# Altium footprint library WS-TASV.PcbLib: 101 footprints (part 1 of 7)
Each footprint in its own frame and in the unit in brackets; x right, y up, seen from the top. Pads: shape width x height; smd on the part's side, far side on the other; paste and mask are expansions set on the pad; w line width, h text height; cw(c..) or ccw(c..) is an arc to the next point about the centre after c.
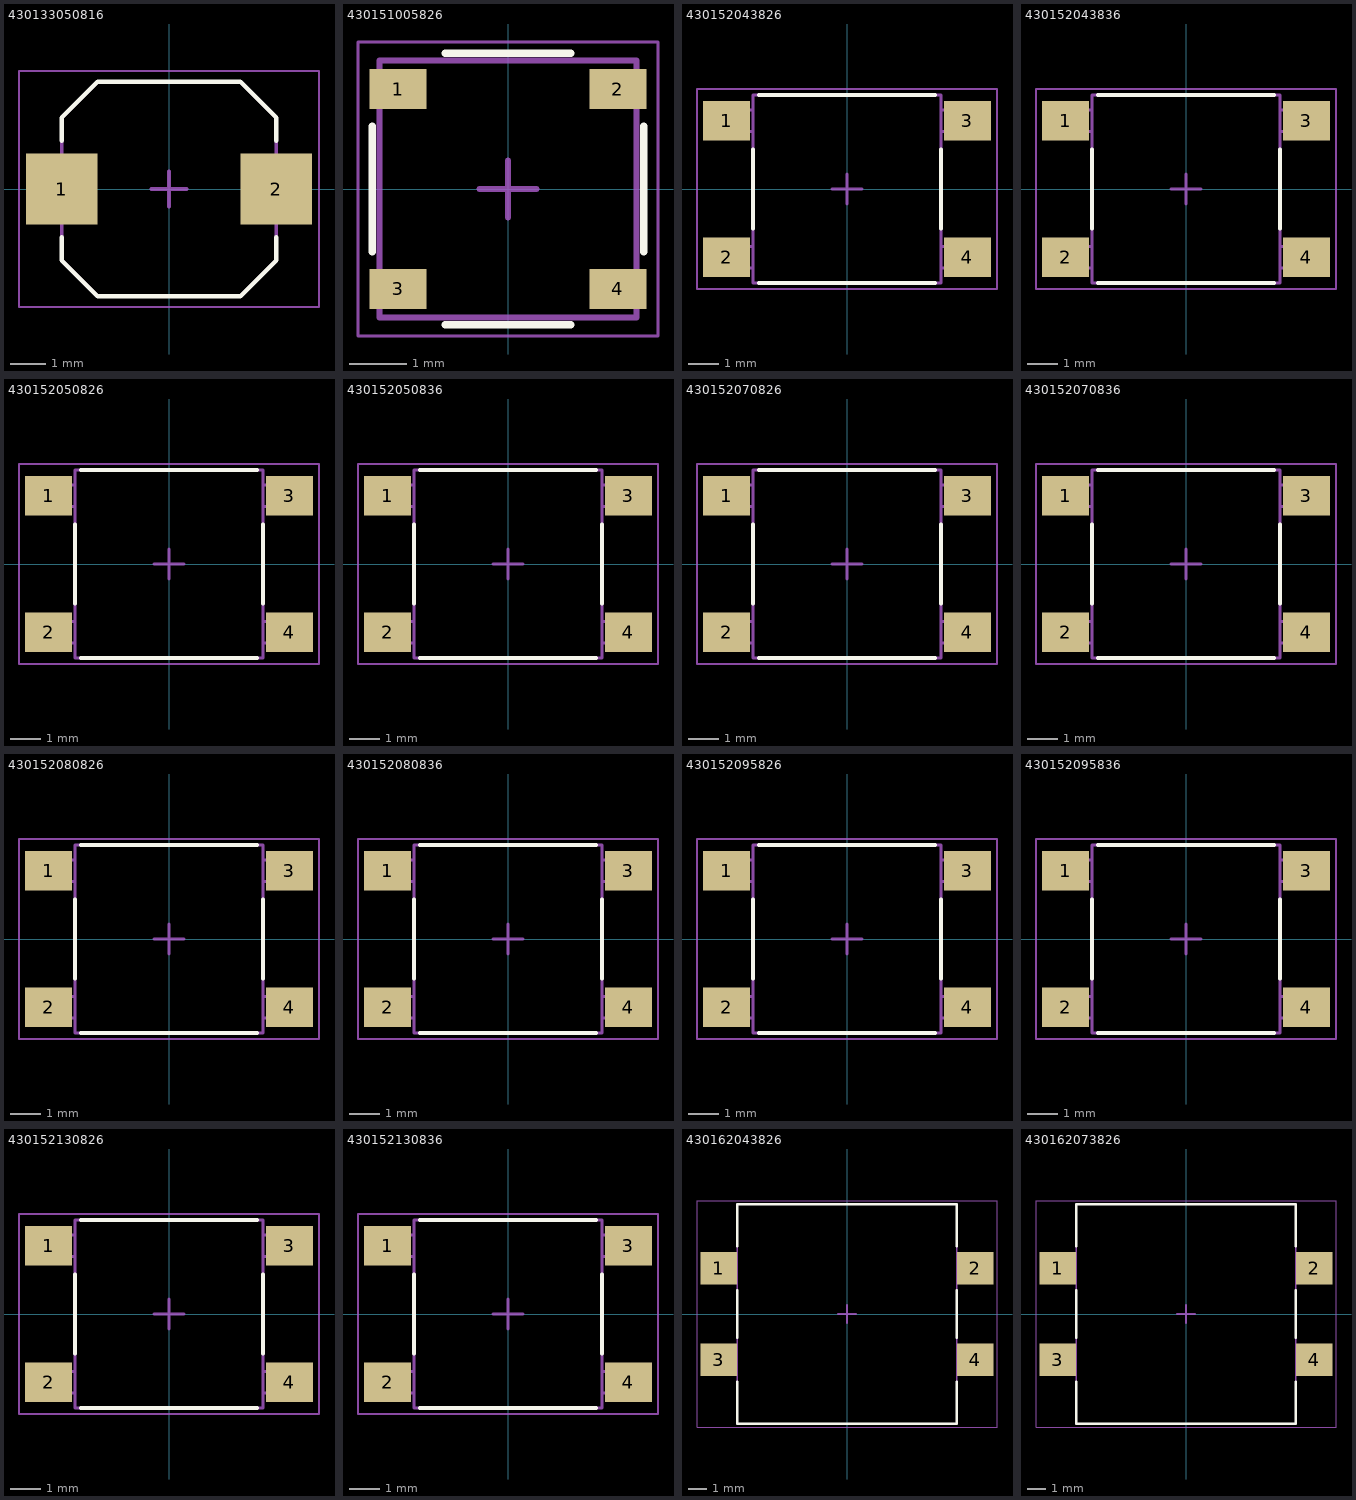
[diagram p0: the footprints below, top view; thin cyan lines are the x and y axes]

## 430133050816 [mm] "Tact Switch, SMT, body 6x6mm"
height 5
pads (2):
  rect 2x2 smd: 1(-3,0) 2(3,0)
Top Overlay:
  lines w0.127: -3,-1.35 -3,-2 -2,-3 2,-3 3,-2 3,-1.35 ; -3,1.35 -3,2 -2,3 2,3 3,2 3,1.35
Top Assembly:
  lines w0.1: -3,-2 -3,2 -2,3 2,3 3,2 3,-2 2,-3 -2,-3 -3,-2
Top Designator:
  text ".Designator" at -3.647,-0.357 h1
Top Courtyard:
  lines w0.05: -4.2,-3.3 4.2,-3.3 4.2,3.3 -4.2,3.3 -4.2,-3.3
Top Component Center:
  lines w0.1: -0.5,0 0.5,0 ; 0,-0.5 0,0.5
3D body "4301330508x6.stp": height 5, standoff 0, extent -3.35,-3 3.35,3

## 430151005826 [mm] "Tact Switch, SMD, body 4.5x4.5mm"
height 0.55
pads (4):
  rect 1x0.7 smd: 1(-1.925,1.75) 2(1.925,1.75) 3(-1.925,-1.75) 4(1.925,-1.75)
Top Overlay:
  lines w0.127: -2.375,-1.1 -2.375,1.1 ; -1.1,-2.375 1.1,-2.375 ; -1.1,2.375 1.1,2.375 ; 2.375,-1.1 2.375,1.1
Top Assembly:
  lines w0.1: -2.25,-2.25 2.25,-2.25 2.25,2.25 -2.25,2.25 -2.25,-2.25
Top Designator:
  text ".Designator" at -3.647,-0.357 h1
Top 3D Body:
  lines w0.1: -2.25,-2.25 -2.25,2.25 2.25,2.25 2.25,-2.25 -2.25,-2.25
Top Courtyard:
  lines w0.05: -2.625,-2.575 2.625,-2.575 2.625,2.575 -2.625,2.575 -2.625,-2.575
Top Component Center:
  lines w0.1: -0.5,0 0.5,0 ; 0,-0.5 0,0.5
3D body "4301x10058x6.stp": height 0.55, standoff -0.01, extent -2.375,-2.25 2.375,2.25

## 430152043826 [mm] "SMD Tact Switch, body 6x6mm"
height 4.3
pads (4):
  rect 1.55x1.3 smd: 1(-3.975,2.25) 2(-3.975,-2.25) 3(3.975,2.25) 4(3.975,-2.25)
Top Overlay:
  lines w0.127: -3.1,-1.3 -3.1,1.3 ; -2.9,-3.1 2.9,-3.1 ; -2.9,3.1 2.9,3.1 ; 3.1,-1.3 3.1,1.3
Top Assembly:
  lines w0.1: -3.1,-2.6 -4.5,-2.6 -4.5,-1.9 -3.1,-1.9 ; -3.1,1.9 -4.5,1.9 -4.5,2.6 -3.1,2.6 ; 3.1,-2.6 4.5,-2.6 4.5,-1.9 3.1,-1.9 ; 3.1,1.9 4.5,1.9 4.5,2.6 3.1,2.6 ; -3.1,-3.1 -3.1,3.1 3.1,3.1 3.1,-3.1 -3.1,-3.1
Top Designator:
  text ".Designator" at -3.647,-0.357 h1
Top 3D Body:
  lines w0.1: -3.1,-2.6 -4.5,-2.6 -4.5,-1.9 -3.1,-1.9 ; -3.1,1.9 -4.5,1.9 -4.5,2.6 -3.1,2.6 ; 3.1,-2.6 4.5,-2.6 4.5,-1.9 3.1,-1.9 ; 3.1,1.9 4.5,1.9 4.5,2.6 3.1,2.6 ; -3.1,-3.1 -3.1,3.1 3.1,3.1 3.1,-3.1 -3.1,-3.1
Top Courtyard:
  lines w0.05: -4.95,-3.3 4.95,-3.3 4.95,3.3 -4.95,3.3 -4.95,-3.3
Top Component Center:
  lines w0.1: -0.5,0 0.5,0 ; 0,-0.5 0,0.5
3D body "4301x20438x6.stp": height 4.3, standoff 0, extent -4.5,-3.1 4.5,3.1

## 430152043836 [mm] "SMD Tact Switch, body 6x6mm"
height 4.3
pads (4):
  rect 1.55x1.3 smd: 1(-3.975,2.25) 2(-3.975,-2.25) 3(3.975,2.25) 4(3.975,-2.25)
Top Overlay:
  lines w0.127: -3.1,-1.3 -3.1,1.3 ; -2.9,-3.1 2.9,-3.1 ; -2.9,3.1 2.9,3.1 ; 3.1,-1.3 3.1,1.3
Top Assembly:
  lines w0.1: -3.1,-2.6 -4.5,-2.6 -4.5,-1.9 -3.1,-1.9 ; -3.1,1.9 -4.5,1.9 -4.5,2.6 -3.1,2.6 ; 3.1,-2.6 4.5,-2.6 4.5,-1.9 3.1,-1.9 ; 3.1,1.9 4.5,1.9 4.5,2.6 3.1,2.6 ; -3.1,-3.1 3.1,-3.1 3.1,3.1 -3.1,3.1 -3.1,-3.1
Top Designator:
  text ".Designator" at -3.647,-0.357 h1
Top 3D Body:
  lines w0.1: -3.1,-2.6 -4.5,-2.6 -4.5,-1.9 -3.1,-1.9 ; -3.1,1.9 -4.5,1.9 -4.5,2.6 -3.1,2.6 ; 3.1,-2.6 4.5,-2.6 4.5,-1.9 3.1,-1.9 ; 3.1,1.9 4.5,1.9 4.5,2.6 3.1,2.6 ; -3.1,-3.1 3.1,-3.1 3.1,3.1 -3.1,3.1 -3.1,-3.1
Top Courtyard:
  lines w0.05: -4.95,-3.3 -4.95,3.3 4.95,3.3 4.95,-3.3 -4.95,-3.3
Top Component Center:
  lines w0.1: -0.5,0 0.5,0 ; 0,-0.5 0,0.5
3D body "4301x20438x6.stp": height 4.3, standoff 0, extent -4.5,-3.1 4.5,3.1

## 430152050826 [mm] "SMD Tact Switch, body 6x6mm"
height 5
pads (4):
  rect 1.55x1.3 smd: 1(-3.975,2.25) 2(-3.975,-2.25) 3(3.975,2.25) 4(3.975,-2.25)
Top Overlay:
  lines w0.127: -3.1,-1.3 -3.1,1.3 ; -2.9,-3.1 2.9,-3.1 ; -2.9,3.1 2.9,3.1 ; 3.1,-1.3 3.1,1.3
Top Assembly:
  lines w0.1: -3.1,-2.6 -4.5,-2.6 -4.5,-1.9 -3.1,-1.9 ; -3.1,1.9 -4.5,1.9 -4.5,2.6 -3.1,2.6 ; 3.1,-2.6 4.5,-2.6 4.5,-1.9 3.1,-1.9 ; 3.1,1.9 4.5,1.9 4.5,2.6 3.1,2.6 ; -3.1,-3.1 3.1,-3.1 3.1,3.1 -3.1,3.1 -3.1,-3.1
Top Designator:
  text ".Designator" at -3.647,-0.357 h1
Top 3D Body:
  lines w0.1: -3.1,-2.6 -4.5,-2.6 -4.5,-1.9 -3.1,-1.9 ; -3.1,1.9 -4.5,1.9 -4.5,2.6 -3.1,2.6 ; 3.1,-2.6 4.5,-2.6 4.5,-1.9 3.1,-1.9 ; 3.1,1.9 4.5,1.9 4.5,2.6 3.1,2.6 ; -3.1,-3.1 -3.1,3.1 3.1,3.1 3.1,-3.1 -3.1,-3.1
Top Courtyard:
  lines w0.05: -4.95,-3.3 -4.95,3.3 4.95,3.3 4.95,-3.3 -4.95,-3.3
Top Component Center:
  lines w0.1: -0.5,0 0.5,0 ; 0,-0.5 0,0.5
3D body "4301x20508x6.stp": height 5, standoff 0, extent -4.5,-3.1 4.5,3.1

## 430152050836 [mm] "SMD Tact Switch, body 6x6mm"
height 5
pads (4):
  rect 1.55x1.3 smd: 1(-3.975,2.25) 2(-3.975,-2.25) 3(3.975,2.25) 4(3.975,-2.25)
Top Overlay:
  lines w0.127: -3.1,-1.3 -3.1,1.3 ; -2.9,-3.1 2.9,-3.1 ; -2.9,3.1 2.9,3.1 ; 3.1,-1.3 3.1,1.3
Top Assembly:
  lines w0.1: -3.1,-2.6 -4.5,-2.6 -4.5,-1.9 -3.1,-1.9 ; -3.1,1.9 -4.5,1.9 -4.5,2.6 -3.1,2.6 ; 3.1,-2.6 4.5,-2.6 4.5,-1.9 3.1,-1.9 ; 3.1,1.9 4.5,1.9 4.5,2.6 3.1,2.6 ; -3.1,-3.1 3.1,-3.1 3.1,3.1 -3.1,3.1 -3.1,-3.1
Top Designator:
  text ".Designator" at -3.647,-0.357 h1
Top 3D Body:
  lines w0.1: -3.1,-2.6 -4.5,-2.6 -4.5,-1.9 -3.1,-1.9 ; -3.1,1.9 -4.5,1.9 -4.5,2.6 -3.1,2.6 ; 3.1,-2.6 4.5,-2.6 4.5,-1.9 3.1,-1.9 ; 3.1,1.9 4.5,1.9 4.5,2.6 3.1,2.6 ; -3.1,-3.1 -3.1,3.1 3.1,3.1 3.1,-3.1 -3.1,-3.1
Top Courtyard:
  lines w0.05: -4.95,-3.3 -4.95,3.3 4.95,3.3 4.95,-3.3 -4.95,-3.3
Top Component Center:
  lines w0.1: -0.5,0 0.5,0 ; 0,-0.5 0,0.5
3D body "4301x20508x6.stp": height 5, standoff 0, extent -4.5,-3.1 4.5,3.1

## 430152070826 [mm] "SMD Tact Switch, body 6x6mm"
height 7
pads (4):
  rect 1.55x1.3 smd: 1(-3.975,2.25) 2(-3.975,-2.25) 3(3.975,2.25) 4(3.975,-2.25)
Top Overlay:
  lines w0.127: -3.1,-1.3 -3.1,1.3 ; -2.9,-3.1 2.9,-3.1 ; -2.9,3.1 2.9,3.1 ; 3.1,-1.3 3.1,1.3
Top Assembly:
  lines w0.1: -3.1,-2.6 -4.5,-2.6 -4.5,-1.9 -3.1,-1.9 ; -3.1,1.9 -4.5,1.9 -4.5,2.6 -3.1,2.6 ; 3.1,-2.6 4.5,-2.6 4.5,-1.9 3.1,-1.9 ; 3.1,1.9 4.5,1.9 4.5,2.6 3.1,2.6 ; -3.1,-3.1 3.1,-3.1 3.1,3.1 -3.1,3.1 -3.1,-3.1
Top Designator:
  text ".Designator" at -3.647,-0.357 h1
Top 3D Body:
  lines w0.1: -3.1,-2.6 -4.5,-2.6 -4.5,-1.9 -3.1,-1.9 ; -3.1,1.9 -4.5,1.9 -4.5,2.6 -3.1,2.6 ; 3.1,-2.6 4.5,-2.6 4.5,-1.9 3.1,-1.9 ; 3.1,1.9 4.5,1.9 4.5,2.6 3.1,2.6 ; -3.1,-3.1 3.1,-3.1 3.1,3.1 -3.1,3.1 -3.1,-3.1
Top Courtyard:
  lines w0.05: -4.95,-3.3 -4.95,3.3 4.95,3.3 4.95,-3.3 -4.95,-3.3
Top Component Center:
  lines w0.1: -0.5,0 0.5,0 ; 0,-0.5 0,0.5
3D body "4301x20708x6.stp": height 7, standoff 0, extent -4.5,-3.1 4.5,3.1

## 430152070836 [mm] "SMD Tact Switch, body 6x6mm"
height 7
pads (4):
  rect 1.55x1.3 smd: 1(-3.975,2.25) 2(-3.975,-2.25) 3(3.975,2.25) 4(3.975,-2.25)
Top Overlay:
  lines w0.127: -3.1,-1.3 -3.1,1.3 ; -2.9,-3.1 2.9,-3.1 ; -2.9,3.1 2.9,3.1 ; 3.1,-1.3 3.1,1.3
Top Assembly:
  lines w0.1: -3.1,-2.6 -4.5,-2.6 -4.5,-1.9 -3.1,-1.9 ; -3.1,1.9 -4.5,1.9 -4.5,2.6 -3.1,2.6 ; 3.1,-2.6 4.5,-2.6 4.5,-1.9 3.1,-1.9 ; 3.1,1.9 4.5,1.9 4.5,2.6 3.1,2.6 ; -3.1,-3.1 -3.1,3.1 3.1,3.1 3.1,-3.1 -3.1,-3.1
Top Designator:
  text ".Designator" at -3.647,-0.357 h1
Top 3D Body:
  lines w0.1: -3.1,-2.6 -4.5,-2.6 -4.5,-1.9 -3.1,-1.9 ; -3.1,1.9 -4.5,1.9 -4.5,2.6 -3.1,2.6 ; 3.1,-2.6 4.5,-2.6 4.5,-1.9 3.1,-1.9 ; 3.1,1.9 4.5,1.9 4.5,2.6 3.1,2.6 ; -3.1,-3.1 3.1,-3.1 3.1,3.1 -3.1,3.1 -3.1,-3.1
Top Courtyard:
  lines w0.05: -4.95,-3.3 4.95,-3.3 4.95,3.3 -4.95,3.3 -4.95,-3.3
Top Component Center:
  lines w0.1: -0.5,0 0.5,0 ; 0,-0.5 0,0.5
3D body "4301x20708x6.stp": height 7, standoff 0, extent -4.5,-3.1 4.5,3.1

## 430152080826 [mm] "SMD Tact Switch, body 6x6mm"
height 8
pads (4):
  rect 1.55x1.3 smd: 1(-3.975,2.25) 2(-3.975,-2.25) 3(3.975,2.25) 4(3.975,-2.25)
Top Overlay:
  lines w0.127: -3.1,-1.3 -3.1,1.3 ; -2.9,-3.1 2.9,-3.1 ; -2.9,3.1 2.9,3.1 ; 3.1,-1.3 3.1,1.3
Top Assembly:
  lines w0.1: -3.1,-2.6 -4.5,-2.6 -4.5,-1.9 -3.1,-1.9 ; -3.1,1.9 -4.5,1.9 -4.5,2.6 -3.1,2.6 ; 3.1,-2.6 4.5,-2.6 4.5,-1.9 3.1,-1.9 ; 3.1,1.9 4.5,1.9 4.5,2.6 3.1,2.6 ; -3.1,-3.1 -3.1,3.1 3.1,3.1 3.1,-3.1 -3.1,-3.1
Top Designator:
  text ".Designator" at -3.647,-0.357 h1
Top 3D Body:
  lines w0.1: -3.1,-2.6 -4.5,-2.6 -4.5,-1.9 -3.1,-1.9 ; -3.1,1.9 -4.5,1.9 -4.5,2.6 -3.1,2.6 ; 3.1,-2.6 4.5,-2.6 4.5,-1.9 3.1,-1.9 ; 3.1,1.9 4.5,1.9 4.5,2.6 3.1,2.6 ; -3.1,-3.1 -3.1,3.1 3.1,3.1 3.1,-3.1 -3.1,-3.1
Top Courtyard:
  lines w0.05: -4.95,-3.3 -4.95,3.3 4.95,3.3 4.95,-3.3 -4.95,-3.3
Top Component Center:
  lines w0.1: -0.5,0 0.5,0 ; 0,-0.5 0,0.5
3D body "4301x20808x6.stp": height 8, standoff 0, extent -4.5,-3.1 4.5,3.1

## 430152080836 [mm] "SMD Tact Switch, body 6x6mm"
height 8
pads (4):
  rect 1.55x1.3 smd: 1(-3.975,2.25) 2(-3.975,-2.25) 3(3.975,2.25) 4(3.975,-2.25)
Top Overlay:
  lines w0.127: -3.1,-1.3 -3.1,1.3 ; -2.9,-3.1 2.9,-3.1 ; -2.9,3.1 2.9,3.1 ; 3.1,-1.3 3.1,1.3
Top Assembly:
  lines w0.1: -3.1,-2.6 -4.5,-2.6 -4.5,-1.9 -3.1,-1.9 ; -3.1,1.9 -4.5,1.9 -4.5,2.6 -3.1,2.6 ; 3.1,-2.6 4.5,-2.6 4.5,-1.9 3.1,-1.9 ; 3.1,1.9 4.5,1.9 4.5,2.6 3.1,2.6 ; -3.1,-3.1 3.1,-3.1 3.1,3.1 -3.1,3.1 -3.1,-3.1
Top Designator:
  text ".Designator" at -3.647,-0.357 h1
Top 3D Body:
  lines w0.1: -3.1,-2.6 -4.5,-2.6 -4.5,-1.9 -3.1,-1.9 ; -3.1,1.9 -4.5,1.9 -4.5,2.6 -3.1,2.6 ; 3.1,-2.6 4.5,-2.6 4.5,-1.9 3.1,-1.9 ; 3.1,1.9 4.5,1.9 4.5,2.6 3.1,2.6 ; -3.1,-3.1 -3.1,3.1 3.1,3.1 3.1,-3.1 -3.1,-3.1
Top Courtyard:
  lines w0.05: -4.95,-3.3 4.95,-3.3 4.95,3.3 -4.95,3.3 -4.95,-3.3
Top Component Center:
  lines w0.1: -0.5,0 0.5,0 ; 0,-0.5 0,0.5
3D body "4301x20808x6.stp": height 8, standoff 0, extent -4.5,-3.1 4.5,3.1

## 430152095826 [mm] "SMD Tact Switch, body 6x6mm"
height 9.5
pads (4):
  rect 1.55x1.3 smd: 1(-3.975,2.25) 2(-3.975,-2.25) 3(3.975,2.25) 4(3.975,-2.25)
Top Overlay:
  lines w0.127: -3.1,-1.3 -3.1,1.3 ; -2.9,-3.1 2.9,-3.1 ; -2.9,3.1 2.9,3.1 ; 3.1,-1.3 3.1,1.3
Top Assembly:
  lines w0.1: -3.1,-2.6 -4.5,-2.6 -4.5,-1.9 -3.1,-1.9 ; -3.1,1.9 -4.5,1.9 -4.5,2.6 -3.1,2.6 ; 3.1,-2.6 4.5,-2.6 4.5,-1.9 3.1,-1.9 ; 3.1,1.9 4.5,1.9 4.5,2.6 3.1,2.6 ; -3.1,-3.1 3.1,-3.1 3.1,3.1 -3.1,3.1 -3.1,-3.1
Top Designator:
  text ".Designator" at -3.647,-0.357 h1
Top 3D Body:
  lines w0.1: -3.1,-2.6 -4.5,-2.6 -4.5,-1.9 -3.1,-1.9 ; -3.1,1.9 -4.5,1.9 -4.5,2.6 -3.1,2.6 ; 3.1,-2.6 4.5,-2.6 4.5,-1.9 3.1,-1.9 ; 3.1,1.9 4.5,1.9 4.5,2.6 3.1,2.6 ; -3.1,-3.1 3.1,-3.1 3.1,3.1 -3.1,3.1 -3.1,-3.1
Top Courtyard:
  lines w0.05: -4.95,-3.3 4.95,-3.3 4.95,3.3 -4.95,3.3 -4.95,-3.3
Top Component Center:
  lines w0.1: -0.5,0 0.5,0 ; 0,-0.5 0,0.5
3D body "4301x20958x6.stp": height 9.5, standoff 0, extent -4.5,-3.1 4.5,3.1

## 430152095836 [mm] "SMD Tact Switch, body 6x6mm"
height 9.5
pads (4):
  rect 1.55x1.3 smd: 1(-3.975,2.25) 2(-3.975,-2.25) 3(3.975,2.25) 4(3.975,-2.25)
Top Overlay:
  lines w0.127: -3.1,-1.3 -3.1,1.3 ; -2.9,-3.1 2.9,-3.1 ; -2.9,3.1 2.9,3.1 ; 3.1,-1.3 3.1,1.3
Top Assembly:
  lines w0.1: -3.1,-2.6 -4.5,-2.6 -4.5,-1.9 -3.1,-1.9 ; -3.1,1.9 -4.5,1.9 -4.5,2.6 -3.1,2.6 ; 3.1,-2.6 4.5,-2.6 4.5,-1.9 3.1,-1.9 ; 3.1,1.9 4.5,1.9 4.5,2.6 3.1,2.6 ; -3.1,-3.1 -3.1,3.1 3.1,3.1 3.1,-3.1 -3.1,-3.1
Top Designator:
  text ".Designator" at -3.647,-0.357 h1
Top 3D Body:
  lines w0.1: -3.1,-2.6 -4.5,-2.6 -4.5,-1.9 -3.1,-1.9 ; -3.1,1.9 -4.5,1.9 -4.5,2.6 -3.1,2.6 ; 3.1,-2.6 4.5,-2.6 4.5,-1.9 3.1,-1.9 ; 3.1,1.9 4.5,1.9 4.5,2.6 3.1,2.6 ; -3.1,-3.1 3.1,-3.1 3.1,3.1 -3.1,3.1 -3.1,-3.1
Top Courtyard:
  lines w0.05: -4.95,-3.3 -4.95,3.3 4.95,3.3 4.95,-3.3 -4.95,-3.3
Top Component Center:
  lines w0.1: -0.5,0 0.5,0 ; 0,-0.5 0,0.5
3D body "4301x20958x6.stp": height 9.5, standoff 0, extent -4.5,-3.1 4.5,3.1

## 430152130826 [mm] "SMD Tact Switch, body 6.20 x 6.20 mm"
height 13
pads (4):
  rect 1.55x1.3 smd: 1(-3.975,2.25) 2(-3.975,-2.25) 3(3.975,2.25) 4(3.975,-2.25)
Top Overlay:
  lines w0.127: -3.1,-1.3 -3.1,1.3 ; -2.9,-3.1 2.9,-3.1 ; -2.9,3.1 2.9,3.1 ; 3.1,-1.3 3.1,1.3
Top Assembly:
  lines w0.1: -3.1,-2.6 -4.5,-2.6 -4.5,-1.9 -3.1,-1.9 ; -3.1,1.9 -4.5,1.9 -4.5,2.6 -3.1,2.6 ; 3.1,-2.6 4.5,-2.6 4.5,-1.9 3.1,-1.9 ; 3.1,1.9 4.5,1.9 4.5,2.6 3.1,2.6 ; -3.1,-3.1 3.1,-3.1 3.1,3.1 -3.1,3.1 -3.1,-3.1
Top Designator:
  text ".Designator" at -3.647,-0.357 h1
Top 3D Body:
  lines w0.1: -3.1,-2.6 -4.5,-2.6 -4.5,-1.9 -3.1,-1.9 ; -3.1,1.9 -4.5,1.9 -4.5,2.6 -3.1,2.6 ; 3.1,-2.6 4.5,-2.6 4.5,-1.9 3.1,-1.9 ; 3.1,1.9 4.5,1.9 4.5,2.6 3.1,2.6 ; -3.1,-3.1 3.1,-3.1 3.1,3.1 -3.1,3.1 -3.1,-3.1
Top Courtyard:
  lines w0.05: -4.95,-3.3 -4.95,3.3 4.95,3.3 4.95,-3.3 -4.95,-3.3
Top Component Center:
  lines w0.1: -0.5,0 0.5,0 ; 0,-0.5 0,0.5
3D body "4301x21308x6.stp": height 13, standoff 0, extent -4.5,-3.1 4.5,3.1

## 430152130836 [mm] "SMD Tact Switch, body 6.20 x 6.20 mm"
height 13
pads (4):
  rect 1.55x1.3 smd: 1(-3.975,2.25) 2(-3.975,-2.25) 3(3.975,2.25) 4(3.975,-2.25)
Top Overlay:
  lines w0.127: -3.1,-1.3 -3.1,1.3 ; -2.9,-3.1 2.9,-3.1 ; -2.9,3.1 2.9,3.1 ; 3.1,-1.3 3.1,1.3
Top Assembly:
  lines w0.1: -3.1,-2.6 -4.5,-2.6 -4.5,-1.9 -3.1,-1.9 ; -3.1,1.9 -4.5,1.9 -4.5,2.6 -3.1,2.6 ; 3.1,-2.6 4.5,-2.6 4.5,-1.9 3.1,-1.9 ; 3.1,1.9 4.5,1.9 4.5,2.6 3.1,2.6 ; -3.1,-3.1 3.1,-3.1 3.1,3.1 -3.1,3.1 -3.1,-3.1
Top Designator:
  text ".Designator" at -3.647,-0.357 h1
Top 3D Body:
  lines w0.1: -3.1,-2.6 -4.5,-2.6 -4.5,-1.9 -3.1,-1.9 ; -3.1,1.9 -4.5,1.9 -4.5,2.6 -3.1,2.6 ; 3.1,-2.6 4.5,-2.6 4.5,-1.9 3.1,-1.9 ; 3.1,1.9 4.5,1.9 4.5,2.6 3.1,2.6 ; -3.1,-3.1 -3.1,3.1 3.1,3.1 3.1,-3.1 -3.1,-3.1
Top Courtyard:
  lines w0.05: -4.95,-3.3 -4.95,3.3 4.95,3.3 4.95,-3.3 -4.95,-3.3
Top Component Center:
  lines w0.1: -0.5,0 0.5,0 ; 0,-0.5 0,0.5
3D body "4301x21308x6.stp": height 13, standoff 0, extent -4.5,-3.1 4.5,3.1

## 430162043826 [mm] "Tact Switch, SMD, body 12x12mm"
height 4.3
pads (4):
  rect 2x1.8 smd: 1(-7,2.5) 2(7,2.5) 3(-7,-2.5) 4(7,-2.5)
Top Overlay:
  lines w0.127: -6,-3.7 -6,-6 6,-6 6,-3.7 ; -6,-1.3 -6,1.3 ; -6,3.7 -6,6 6,6 6,3.7 ; 6,-1.3 6,1.3
Top Assembly:
  lines w0.1: -6,-3 -7.65,-3 -7.65,-2 -6,-2 ; -6,2 -7.65,2 -7.65,3 -6,3 ; 6,-3 7.65,-3 7.65,-2 6,-2 ; 6,2 7.65,2 7.65,3 6,3 ; -6,-6 -6,6 6,6 6,-6 -6,-6
Top Designator:
  text ".Designator" at -3.647,-0.357 h1
Top 3D Body:
  lines w0.1: -6,-3 -7.65,-3 -7.65,-2 -6,-2 ; -6,2 -7.65,2 -7.65,3 -6,3 ; 6,-3 7.65,-3 7.65,-2 6,-2 ; 6,2 7.65,2 7.65,3 6,3 ; -6,-6 -6,6 6,6 6,-6 -6,-6
Top Courtyard:
  lines w0.05: -8.2,-6.2 8.2,-6.2 8.2,6.2 -8.2,6.2 -8.2,-6.2
Top Component Center:
  lines w0.1: -0.5,0 0.5,0 ; 0,-0.5 0,0.5
3D body "4301x20438x6.stp": height 4.31, standoff 0, extent -7.65,-6 7.65,6

## 430162073826 [mm] "Tact Switch, SMD, body 12x12mm"
height 7.3
pads (4):
  rect 2x1.8 smd: 1(-7,2.5) 2(7,2.5) 3(-7,-2.5) 4(7,-2.5)
Top Overlay:
  lines w0.127: -6,-3.7 -6,-6 6,-6 6,-3.7 ; -6,-1.3 -6,1.3 ; -6,3.7 -6,6 6,6 6,3.7 ; 6,-1.3 6,1.3
Top Assembly:
  lines w0.1: -6,-3 -7.65,-3 -7.65,-2 -6,-2 ; -6,2 -7.65,2 -7.65,3 -6,3 ; 6,-3 7.65,-3 7.65,-2 6,-2 ; 6,2 7.65,2 7.65,3 6,3 ; -6,-6 6,-6 6,6 -6,6 -6,-6
Top Designator:
  text ".Designator" at -3.647,-0.357 h1
Top 3D Body:
  lines w0.1: -6,-3 -7.65,-3 -7.65,-2 -6,-2 ; -6,2 -7.65,2 -7.65,3 -6,3 ; 6,-3 7.65,-3 7.65,-2 6,-2 ; 6,2 7.65,2 7.65,3 6,3 ; -6,-6 6,-6 6,6 -6,6 -6,-6
Top Courtyard:
  lines w0.05: -8.2,-6.2 -8.2,6.2 8.2,6.2 8.2,-6.2 -8.2,-6.2
Top Component Center:
  lines w0.1: -0.5,0 0.5,0 ; 0,-0.5 0,0.5
3D body "4301x20738x6.stp": height 7.3, standoff 0, extent -7.65,-6 7.65,6